# EAGLE library part M63806KP (library transistors)
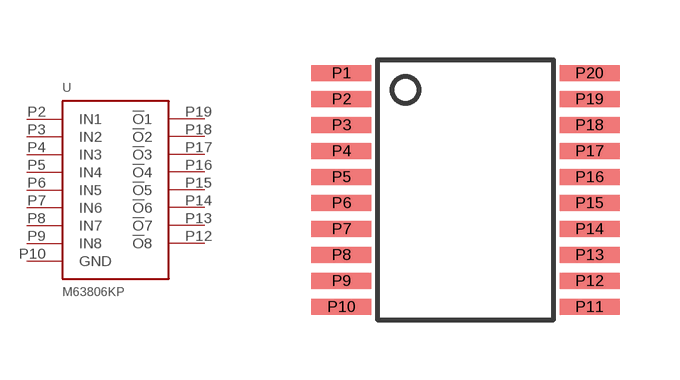
[diagram p0: symbol with the pads of 20P2E; footprint 20P2E]

Designator prefix -

## M63806KP  [20P2E]
P2  IN1  in
P3  IN2  in
P4  IN3  in
P5  IN4  in
P6  IN5  in
P7  IN6  in
P8  IN7  in
P9  IN8  in
P10  GND  pwr
P12  !O!8  out
P13  !O!7  out
P14  !O!6  out
P15  !O!5  out
P16  !O!4  out
P17  !O!3  out
P18  !O!2  out
P19  !O!1  out

## Footprint 20P2E (pad centres in mm)
smd 1.5 x 0.4: P1 -3.1,2.925; P2 -3.1,2.275; P3 -3.1,1.625; P4 -3.1,0.975; P5 -3.1,0.325; P6 -3.1,-0.325; P7 -3.1,-0.975; P8 -3.1,-1.625; P9 -3.1,-2.275; P10 -3.1,-2.925; P11 3.1,-2.925; P12 3.1,-2.275; P13 3.1,-1.625; P14 3.1,-0.975; P15 3.1,-0.325; P16 3.1,0.325; P17 3.1,0.975; P18 3.1,1.625; P19 3.1,2.275; P20 3.1,2.925